# Altium footprint library LARIX_V5.PcbLib: 39 footprints (part 1 of 3)
Each footprint in its own frame and in the unit in brackets; x right, y up, seen from the top. Pads: shape width x height; smd on the part's side, far side on the other; paste and mask are expansions set on the pad; w line width, h text height; cw(c..) or ccw(c..) is an arc to the next point about the centre after c.
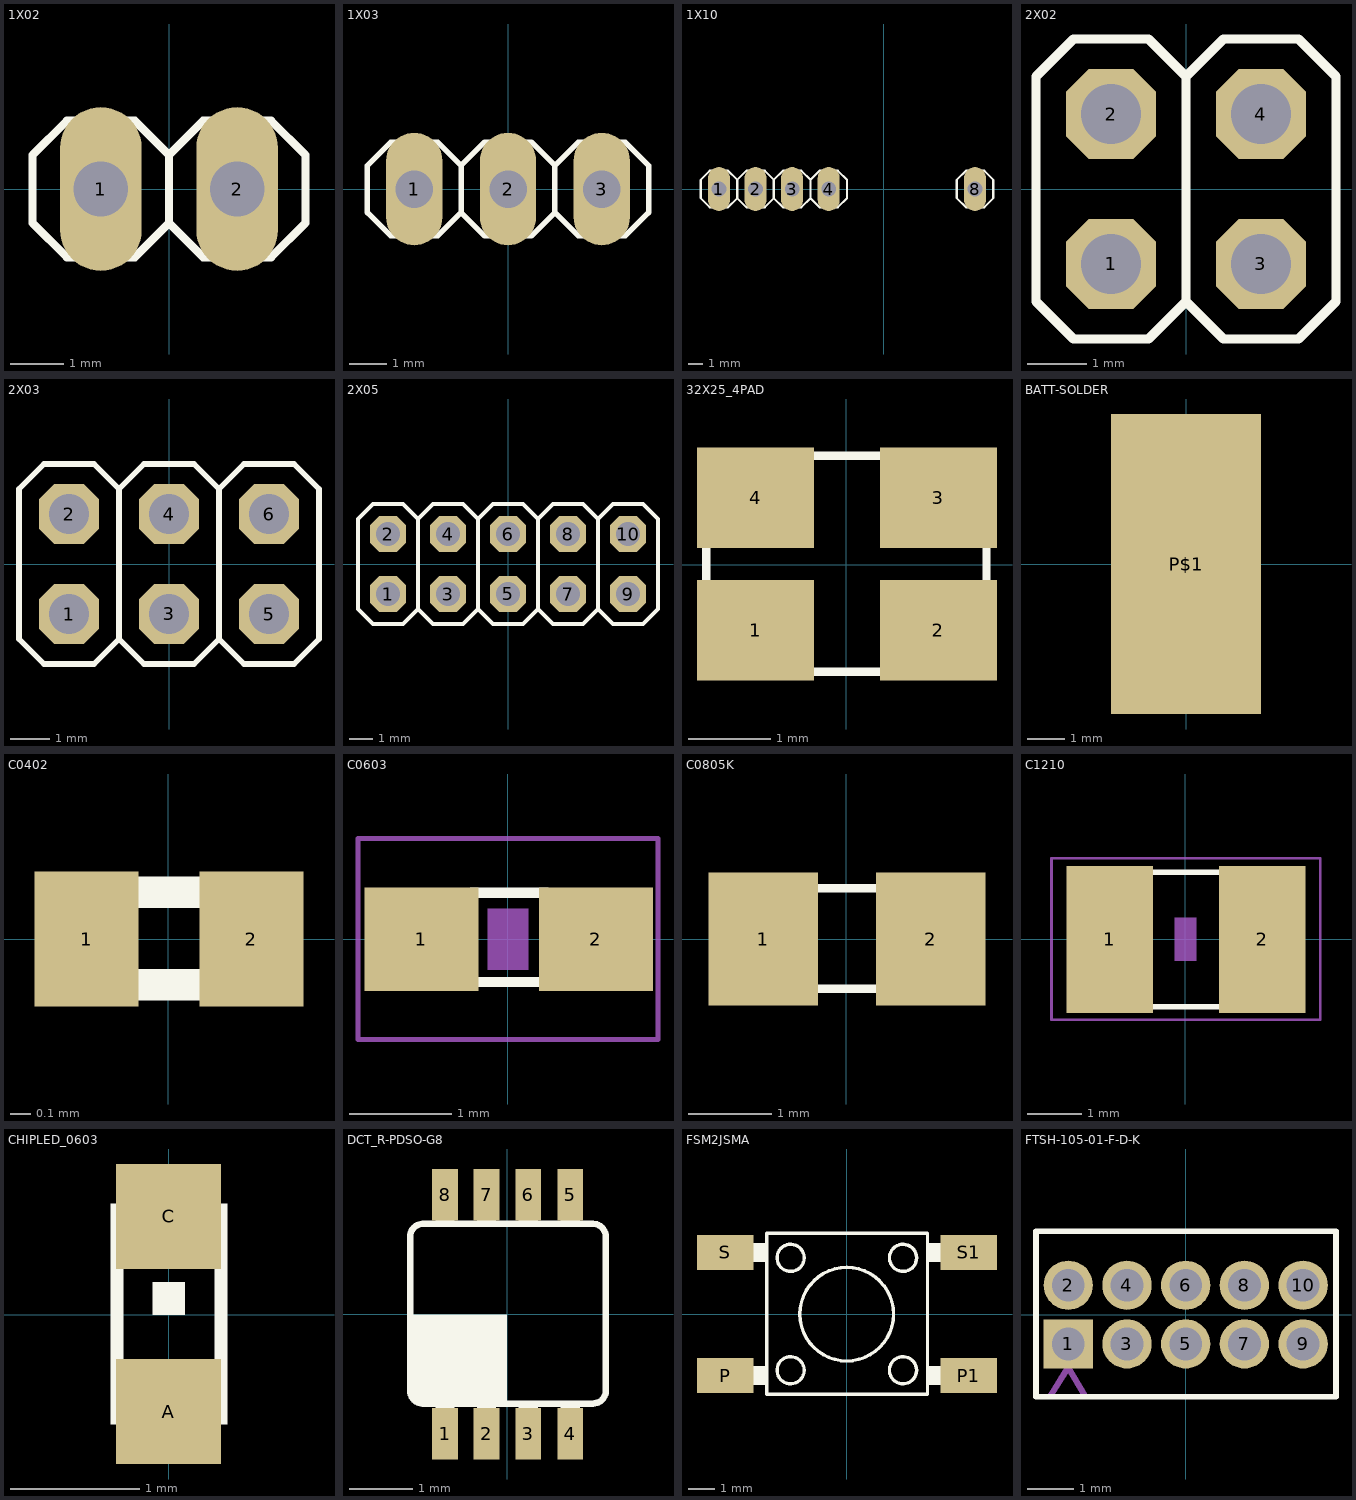
[diagram p0: the footprints below, top view; thin cyan lines are the x and y axes]

## 1X02 [mil] "1X02"
pads (2):
  oval 60x120 hole 40: 1(-50,0) 2(50,0)
Top Overlay:
  lines w6: 0,-25 0,25 ; 0,-25 -25,-50 -75,-50 -100,-25 -100,25 -75,50 -25,50 0,25 ; 0,-25 25,-50 75,-50 100,-25 100,25 75,50 25,50 0,25
Mechanical 2:
Mechanical 4:
Mechanical 16:
  rectangle: -60,-10 -40,10
  rectangle: 40,-10 60,10

## 1X03 [mil] "1X03"
pads (3):
  oval 60x120 hole 40: 1(-100,0) 2(0,0) 3(100,0)
Top Overlay:
  lines w6: -50,-25 -25,-50 25,-50 50,-25 ; -50,-25 -75,-50 -125,-50 -150,-25 -150,25 -125,50 -75,50 -50,25 ; -50,-25 -50,25 ; -50,25 -25,50 25,50 50,25 ; 50,-25 75,-50 125,-50 150,-25 150,25 125,50 75,50 50,25 ; 50,-25 50,25
Mechanical 2:
Mechanical 4:
Mechanical 16:
  rectangle: 90,-10 110,10
  rectangle: -110,-10 -90,10
  rectangle: -10,-10 10,10

## 1X10 [mil] "1X10"
pads (5):
  oval 60x120 hole 40: 1(-450,0) 2(-350,0) 3(-250,0) 4(-150,0) 8(250,0)
Top Overlay:
  lines w6: -400,-25 -375,-50 -325,-50 -300,-25 ; -400,-25 -425,-50 -475,-50 -500,-25 -500,25 -475,50 -425,50 -400,25 ; -400,-25 -400,25 ; -400,25 -375,50 -325,50 -300,25 ; -300,-25 -300,25 ; -300,-25 -275,-50 -225,-50 -200,-25 ; -300,25 -275,50 -225,50 -200,25 ; -200,-25 -175,-50 -125,-50 -100,-25 -100,25 -125,50 -175,50 -200,25 ; -200,-25 -200,25 ; 200,-25 225,-50 275,-50 300,-25 300,25 275,50 225,50 200,25 200,-25
Mechanical 2:
Mechanical 4:
Mechanical 16:
  rectangle: -460,-10 -440,10
  rectangle: -360,-10 -340,10
  rectangle: -260,-10 -240,10
  rectangle: -160,-10 -140,10
  rectangle: 240,-10 260,10

## 2X02 [mil] "2X02"
pads (4):
  oct 60x60 hole 40: 1(-50,-50) 2(-50,50) 3(50,-50) 4(50,50)
Top Overlay:
  lines w6: 0,-75 0,75 ; 0,-75 25,-100 75,-100 100,-75 100,75 75,100 25,100 0,75 ; 0,-75 -25,-100 -75,-100 -100,-75 -100,75 -75,100 -25,100 0,75
Mechanical 2:
Mechanical 4:
Mechanical 16:
  rectangle: 40,-60 60,-40
  rectangle: 40,40 60,60
  rectangle: -60,40 -40,60
  rectangle: -60,-60 -40,-40

## 2X03 [mil] "2X03"
pads (6):
  oct 60x60 hole 40: 1(-100,-50) 2(-100,50) 3(0,-50) 4(0,50) 5(100,-50) 6(100,50)
Top Overlay:
  lines w6: -50,-75 -50,75 ; -50,-75 -25,-100 25,-100 50,-75 ; -50,-75 -75,-100 -125,-100 -150,-75 -150,75 -125,100 -75,100 -50,75 ; -50,75 -25,100 25,100 50,75 ; 50,-75 75,-100 125,-100 150,-75 150,75 125,100 75,100 50,75 ; 50,-75 50,75
Mechanical 2:
Mechanical 4:
Mechanical 16:
  rectangle: 90,-60 110,-40
  rectangle: 90,40 110,60
  rectangle: -10,-60 10,-40
  rectangle: -10,40 10,60
  rectangle: -110,40 -90,60
  rectangle: -110,-60 -90,-40
3D body: height 275.63, standoff -118.11, extent -149.99,-99.99 150.01,100.01

## 2X05 [mil] "2X05"
pads (10):
  oct 60x60 hole 40: 1(-200,-50) 2(-200,50) 3(-100,-50) 4(-100,50) 5(0,-50) 6(0,50) 7(100,-50) 8(100,50) 9(200,-50) 10(200,50)
Top Overlay:
  lines w6: -150,-75 -175,-100 -225,-100 -250,-75 -250,75 -225,100 -175,100 -150,75 ; -150,-75 -125,-100 -75,-100 -50,-75 ; -150,-75 -150,75 ; -150,75 -125,100 -75,100 -50,75 ; -50,-75 -25,-100 25,-100 50,-75 ; -50,-75 -50,75 ; -50,75 -25,100 25,100 50,75 ; 50,-75 75,-100 125,-100 150,-75 ; 50,-75 50,75 ; 50,75 75,100 125,100 150,75 ; 150,-75 150,75 ; 150,-75 175,-100 225,-100 250,-75 250,75 225,100 175,100 150,75
Mechanical 2:
Mechanical 4:
Mechanical 16:
  rectangle: -210,-60 -190,-40
  rectangle: -210,40 -190,60
  rectangle: -110,40 -90,60
  rectangle: -110,-60 -90,-40
  rectangle: -10,40 10,60
  rectangle: -10,-60 10,-40
  rectangle: 90,40 110,60
  rectangle: 90,-60 110,-40
  rectangle: 190,40 210,60
  rectangle: 190,-60 210,-40
3D body: height 275.63, standoff -117.99, extent -250,-100 250,100

## 32X25_4PAD [mil] "32X25_4PAD"
pads (4):
  rect 56x48 smd: 1(-43.31,-31.5) 2(44,-31.5) 3(44,32) 4(-43.31,32)
Top Overlay:
  circle w0: c-43.31,-31.5 r9
  circle w0: c-43.31,-31.5 r9
  lines w4: -47.24,-51.18 cw(c-43.31,-51.18) -43.31,-47.24 ; -47.24,-51.18 cw(c-43.31,-51.18) -43.31,-47.24 ; -47.24,-51.18 -62.99,-51.18 -62.99,-31.5 -66.93,-27.56 -66.93,28 -62.99,32 -62.99,52 -47.24,52 ; -47.24,52 ccw(c-43.28,51.97) -43.31,48 ; -47.24,52 ccw(c-43.28,51.97) -43.31,48 ; -43.31,-47.24 cw(c-43.31,-51.18) -39.37,-51.18 ; -43.31,-47.24 cw(c-43.31,-51.18) -39.37,-51.18 ; -43.31,48 ccw(c-43.34,51.97) -39.37,52 ; -43.31,48 ccw(c-43.34,51.97) -39.37,52 ; -39.37,-51.18 40,-51.18 ; -39.37,52 40,52 ; 40,-51.18 cw(c43.97,-51.21) 44,-47.24 ; 40,-51.18 cw(c43.97,-51.21) 44,-47.24 ; 40,52 ccw(c44,52) 44,48 ; 40,52 ccw(c44,52) 44,48 ; 44,-47.24 cw(c44.03,-51.21) 48,-51.18 ; 44,-47.24 cw(c44.03,-51.21) 48,-51.18 ; 44,48 ccw(c44,52) 48,52 ; 44,48 ccw(c44,52) 48,52 ; 48,-51.18 63,-51.18 63,-31.5 67,-27.56 67,28 63,32 63,52 48,52
Mechanical 2:
Mechanical 4:
3D body: height 29.53, standoff 0, extent -62.99,-49.21 62.99,49.21

## BATT-SOLDER [mil] "BATT-SOLDER"
pads (1):
  rect 158x315 smd: P$1(0,0)

## C0402 [mil] "C0402"
pads (2):
  rect 20x26 smd: 1(-15.75,0) 2(16,0)
Top Overlay:
  rectangle: 11,-12 22,12
  rectangle: -21.81,-12 -10,12
  rectangle: 11,-12 22,12
  rectangle: -21.81,-12 -10,12
  lines w6: -9.65,-8.82 10,-8.82 ; -9.65,9 10,9
Mechanical 2:
Mechanical 4:
3D body: height 19.68, standoff 0, extent -19.68,-9.69 19.68,10

## C0603 [mil] "C0603"
pads (2):
  rect 44x40 smd: 1(-33.46,0) 2(34,0)
Top Overlay:
  rectangle: 13,-18.5 33,19
  rectangle: -33,-18.5 -13.31,19
  rectangle: 13,-18.5 33,19
  rectangle: -33,-18.5 -13.31,19
  lines w4: -14.02,-16.5 15,-16.5 ; -14.02,18 15,18
Mechanical 2:
Mechanical 4:
Mechanical 6:
  rectangle: -7.87,-11.81 8,12
  rectangle: -7.87,-11.81 8,12
Mechanical 16:
  lines w2: -57.99,-38.7 -57.99,39 58,39 58,-38.7 -57.99,-38.7
3D body: height 19.68, standoff 0, extent -31.5,-16.5 31.5,15

## C0805K [mil] "C0805K"
pads (2):
  rect 52x63 smd: 1(-39.37,0) 2(40,0)
Top Overlay:
  rectangle: 20,-25.59 40,26
  rectangle: -39.37,-25.59 -19.68,26
  rectangle: 20,-25.59 40,26
  rectangle: -39.37,-25.59 -19.68,26
  lines w4: -36.42,-23.62 37,-23.62 ; -36.42,24 37,24
Mechanical 2:
Mechanical 4:
3D body: height 31.5, standoff 0, extent -39.37,-25 39.37,24.21

## C1210 [mil] "C1210"
pads (2):
  rect 63x107 smd: 1(-55.12,0) 2(56,0)
Top Overlay:
  rectangle: -67,-51 -37.47,52
  rectangle: 38,-51.36 67,51
  rectangle: -67,-51 -37.47,52
  rectangle: 38,-51.36 67,51
  lines w4: -38,-49 38,-49 ; -38,49 38,49
Mechanical 2:
Mechanical 4:
Mechanical 6:
  rectangle: -7.87,-15.75 8,16
  rectangle: -7.87,-15.75 8,16
Mechanical 16:
  lines w2: -97.36,-58.39 98,-58.39 98,59 -97.36,59 -97.36,-58.39
3D body: height 37.4, standoff 0, extent -62.99,-50 62.99,48.43

## CHIPLED_0603 [mil] "CHIPLED_0603"
pads (2):
  rect 32x32 smd: A(0,-29.53) C(0,30)
Top Overlay:
  circle w2: c-13.78,25 r3
  rectangle: -4.92,0 5,10
  rectangle: 7,-25.59 11,-21.65
  rectangle: -10.83,-25.59 -6.89,-21.65
  rectangle: -10.83,-22.64 11,-13.78
  rectangle: 10,-33.46 18,-13.78
  rectangle: -17.72,-33.46 -9.84,-13.78
  rectangle: -17.72,14 18,23
  rectangle: 10,22 18,34
  rectangle: -17.72,14 -15.75,29
  rectangle: -10.83,22 -8.86,24
  rectangle: -17.72,28 -9.84,34
  lines w2: -10.83,-32.48 cw(c0.09,-32.48) 11,-32.48
  lines w4: -15.75,-13.78 -15.75,15 ; -11.81,33 ccw(c0.09,33) 12,33 ; 16,-13.78 16,14
Mechanical 2:
Mechanical 4:
3D body: height 23.62, standoff -0.08, extent -15,-31.5 16.49,31.5

## DCT_R-PDSO-G8 [mil] "DCT_R-PDSO-G8"
pads (8):
  rect 16x32 smd: 1(-38.39,-73.82) 2(-12.8,-73.82) 3(13,-73.82) 4(39,-73.82) 5(39,74) 6(13,74) 7(-12.8,74) 8(-38.39,74)
Top Overlay:
  rectangle: -59.05,-53.15 0,0
  region: -32.48,84 -44.29,84 -44.29,56 -32.48,56
  region: -6.89,84 -18.7,84 -18.7,56 -6.89,56
  region: 19,84 7,84 7,56 19,56
  region: 45,84 33,84 33,56 45,56
  rectangle: 33,-83.66 45,-55.12
  rectangle: 7,-83.66 19,-55.12
  rectangle: -18.7,-83.66 -6.89,-55.12
  rectangle: -44.29,-83.66 -32.48,-55.12
  rectangle: -59.05,-53.15 0,0
  region: -32.48,84 -44.29,84 -44.29,56 -32.48,56
  region: -6.89,84 -18.7,84 -18.7,56 -6.89,56
  region: 19,84 7,84 7,56 19,56
  region: 45,84 33,84 33,56 45,56
  rectangle: 33,-83.66 45,-55.12
  rectangle: 7,-83.66 19,-55.12
  rectangle: -18.7,-83.66 -6.89,-55.12
  rectangle: -44.29,-83.66 -32.48,-55.12
  lines w4: -60.04,-47.24 ccw(c-52.17,-47.24) -52.17,-55.12 ; -60.04,-47.24 ccw(c-52.17,-47.24) -52.17,-55.12 ; -60.04,-47.24 -60.04,48 ; -60.04,48 cw(c-52.1,48.06) -52.17,56 ; -60.04,48 cw(c-52.1,48.06) -52.17,56 ; -52.17,-55.12 53,-55.12 ; -52.17,56 53,56 ; 53,-55.12 ccw(c53.06,-47.18) 61,-47.24 ; 53,-55.12 ccw(c53.06,-47.18) 61,-47.24 ; 53,56 cw(c53,48) 61,48 ; 53,56 cw(c53,48) 61,48 ; 61,-47.24 61,48
Top Solder:
  region: -28.54,93 -48.23,93 -48.23,57 -28.54,57
  region: -2.95,93 -22.64,93 -22.64,57 -2.95,57
  region: 23,93 3,93 3,57 23,57
  region: 49,93 29,93 29,57 49,57
  rectangle: 29,-92.52 49,-56.1
  rectangle: 3,-92.52 23,-56.1
  rectangle: -22.64,-92.52 -2.95,-56.1
  rectangle: -48.23,-92.52 -28.54,-56.1
  region: -28.54,93 -48.23,93 -48.23,57 -28.54,57
  region: -2.95,93 -22.64,93 -22.64,57 -2.95,57
  region: 23,93 3,93 3,57 23,57
  region: 49,93 29,93 29,57 49,57
  rectangle: 29,-92.52 49,-56.1
  rectangle: 3,-92.52 23,-56.1
  rectangle: -22.64,-92.52 -2.95,-56.1
  rectangle: -48.23,-92.52 -28.54,-56.1
Mechanical 2:
Mechanical 4:
3D body: height 50.61, standoff -0.57, extent -59.01,-83.66 65,83.66

## FSM2JSMA [mil] "FSM2JSMA"
pads (4):
  rect 83x52 smd: P(-179.13,-90.55) P1(180,-90.55) S(-179.13,91) S1(180,91)
Top Overlay:
  circle w5: c0,0 r69
  circle w5: c-82.68,83 r20
  circle w5: c83,83 r20
  circle w5: c83,-82.68 r20
  circle w5: c-82.68,-82.68 r20
  circle w5: c0,0 r69
  circle w5: c-82.68,83 r20
  circle w5: c83,83 r20
  circle w5: c83,-82.68 r20
  circle w5: c-82.68,-82.68 r20
  rectangle: 119,77 197,105
  rectangle: 119,-104.53 197,-76.57
  rectangle: -196.85,-104.53 -118.11,-76.57
  rectangle: -196.85,77 -118.11,105
  rectangle: 119,77 197,105
  rectangle: 119,-104.53 197,-76.57
  rectangle: -196.85,-104.53 -118.11,-76.57
  rectangle: -196.85,77 -118.11,105
  lines w5: -118.11,-118.11 -118.11,119 119,119 119,-118.11 -118.11,-118.11
Mechanical 2:
Mechanical 4:
3D body: height 196.85, standoff 0, extent -196.85,-118.11 196.86,118.11

## FTSH-105-01-F-D-K [mil] "FTSH-105-01-F-D-K"
pads (10):
  rect 42x42 hole 28: 1(-100,-25)
  round 42 hole 28: 2(-100,25) 3(-50,-25) 4(-50,25) 5(0,-25) 6(0,25) 7(50,-25) 8(50,25) 9(100,-25) 10(100,25)
Top Overlay:
  lines w5: -127.48,-70.04 -127.48,71 128,71 128,-70.04 -127.48,-70.04
Mechanical 2:
Mechanical 4:
Mechanical 16:
  lines w5: -115,-69 -100,-45 -86,-69 ; -106.87,-31.87 -106.87,-16.13 -91.13,-16.13 -91.13,-31.87 -106.87,-31.87 ; -106.87,19 -106.87,34 -91.13,34 -91.13,19 -106.87,19 ; -56.87,-31.87 -56.87,-16.13 -41.13,-16.13 -41.13,-31.87 -56.87,-31.87 ; -56.87,19 -56.87,34 -41.13,34 -41.13,19 -56.87,19 ; -6.87,-31.87 -6.87,-16.13 9,-16.13 9,-31.87 -6.87,-31.87 ; -6.87,19 -6.87,34 9,34 9,19 -6.87,19 ; 44,-31.87 44,-16.13 59,-16.13 59,-31.87 44,-31.87 ; 44,19 44,34 59,34 59,19 44,19 ; 94,-31.87 94,-16.13 109,-16.13 109,-31.87 94,-31.87 ; 94,19 94,34 109,34 109,19 94,19